# Altium footprint library FlexV1.PcbLib: 25 footprints (part 2 of 2)
Each footprint in its own frame and in the unit in brackets; x right, y up, seen from the top. Pads: shape width x height; smd on the part's side, far side on the other; paste and mask are expansions set on the pad; w line width, h text height; cw(c..) or ccw(c..) is an arc to the next point about the centre after c.
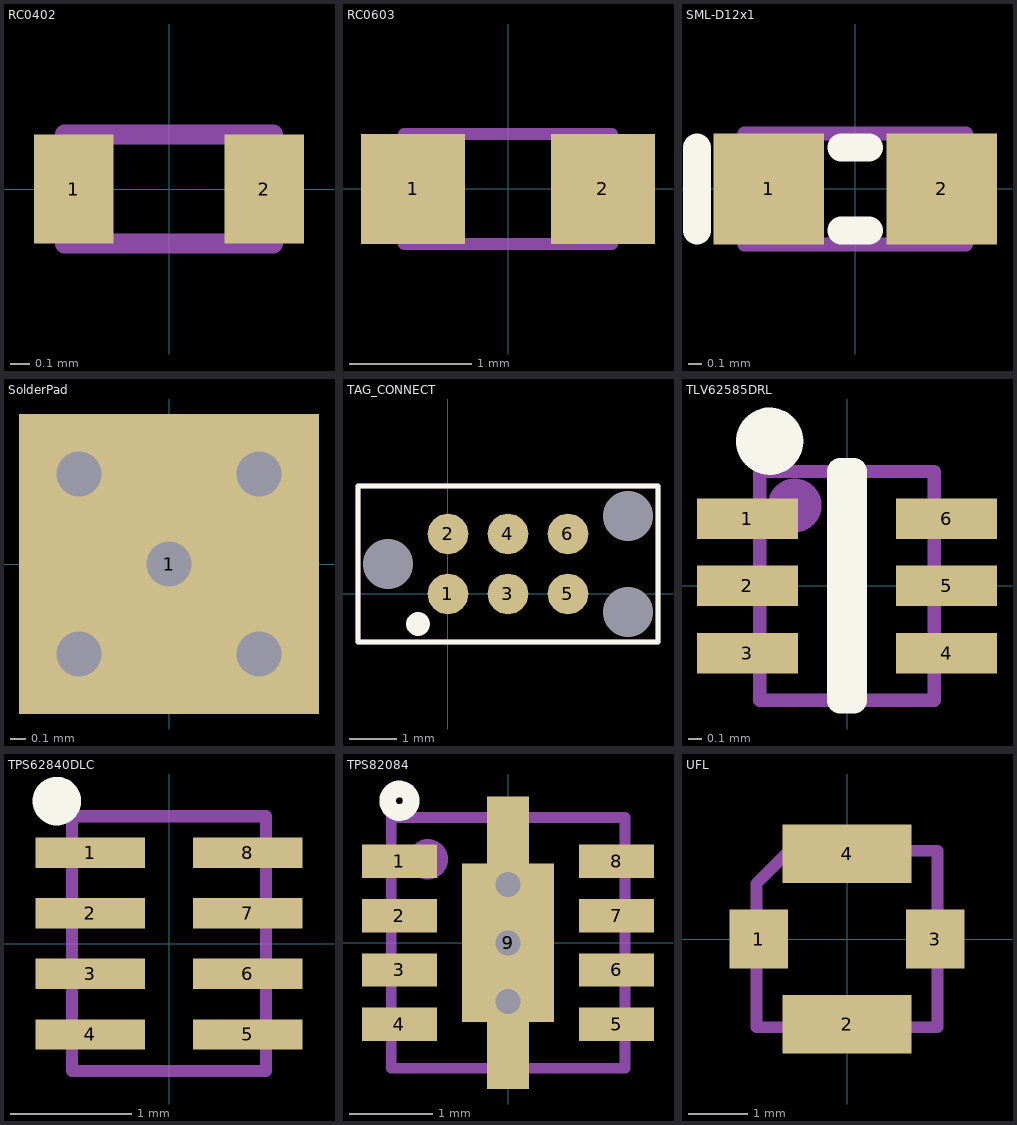
[diagram p1: the footprints below, top view; thin cyan lines are the x and y axes]

## RC0402 [mm]
height 0.4
pads (2):
  rect 0.4x0.55 smd: 1(-0.48,0) 2(0.48,0)
Top Assembly:
  lines w0.1: -0.525,-0.275 -0.525,0.275 0.525,0.275 0.525,-0.275 -0.525,-0.275
  text "'.Designator'" at -0.525,-0.275 h0.5
3D body "RC0402.step": height 0.4, standoff 0, extent -0.525,-0.275 0.525,0.275

## RC0603 [mm]
height 0.55
pads (2):
  rect 0.85x0.9 smd: 1(-0.775,0) 2(0.775,0)
Top Assembly:
  lines w0.1: -0.85,-0.45 0.85,-0.45 0.85,0.45 -0.85,0.45 -0.85,-0.45
  text "'.Designator'" at -0.635,-0.381 h0.7
3D body "RC0603.step": height 0.55, standoff 0, extent -0.85,-0.45 0.85,0.45

## SML-D12x1 [mm]
height 0.55
pads (2):
  rect 0.8x0.8 smd: 1(-0.625,0) 2(0.625,0)
Top Overlay:
  lines w0.2: -1.143,-0.3 -1.143,0.3 ; -0.1,-0.3 0.1,-0.3 ; -0.1,0.3 0.1,0.3
Top Assembly:
  rectangle: -0.8,-0.4 -0.381,0.4
  lines w0.1: -0.8,-0.4 -0.8,0.4 0.8,0.4 0.8,-0.4 -0.8,-0.4
3D body "SML-D12x1 (1).step": height 0.55, standoff 0, extent -0.8,-0.4 0.8,0.4

## SolderPad [mm]
pads (1):
  rect 2x2 hole 0.3: 1(0,0)
via 0.6,0.6 diameter 0.65 hole 0.3
via 0.6,-0.6 diameter 0.65 hole 0.3
via -0.6,-0.6 diameter 0.65 hole 0.3
via -0.6,0.6 diameter 0.65 hole 0.3
Top Layer:
  rectangle: -0.8,-0.8 0.8,0.8
  lines w0.203: 0.4,0.4 0.4,0.4
3D body: height 0.3, standoff 0, extent -1,-1 1,1

## TAG_CONNECT [mil]
pads (9):
  round 33.98 smd paste-1000 mask+0: 1(0,0) 2(0,50) 3(50,0) 4(50,50) 5(100,0) 6(100,50)
  round 0 hole 42: ""(-50,25) ""(150,-15) ""(150,65)
Top Overlay:
  circle w9.84: c-25,-25 r4.92
  lines w3.94: -75,-40 175,-40 175,90 -75,90 -75,-40
Top Assembly:
  circle w9.84: c-25,-25 r4.92
  lines w3.94: -75,-40 175,-40 175,90 -75,90 -75,-40

## TLV62585DRL [mm] "SOTFL, 6-Leads, Body 1,60x1,60mm, Pitch 0,50mm, IPC Medium Density"
height 0.6
pads (6):
  rect 0.75x0.3 smd: 1(-0.74,0.5) 2(-0.74,0) 3(-0.74,-0.5) 4(0.74,-0.5) 5(0.74,0) 6(0.74,0.5)
Top Overlay:
  circle w0.25: c-0.575,1.075 r0.125
  lines w0.2: -0.05,-0.85 0.05,-0.85 0.05,0.85 -0.05,0.85 -0.05,-0.85
Top Assembly:
  circle w0.2: c-0.389,0.597 r0.1
  lines w0.1: -0.65,-0.85 -0.65,0.85 0.65,0.85 0.65,-0.85 -0.65,-0.85
  text "'.Designator'" at -0.5,-0.525 h0.7
3D body "TLV62585DRL.step": height 0.6, standoff 0, extent -0.8,-0.848 0.8,0.848

## TPS62840DLC [mm] "SON, 8-Leads, Body 2,00x1,50mm, Pitch 0,50mm, IPC Medium Density"
height 1
pads (8):
  rect 0.9x0.25 smd: 1(-0.65,0.75) 2(-0.65,0.25) 3(-0.65,-0.25) 4(-0.65,-0.75) 5(0.65,-0.75) 6(0.65,-0.25) 7(0.65,0.25) 8(0.65,0.75)
Top Overlay:
  circle w0.2: c-0.925,1.175 r0.1
Top Assembly:
  lines w0.1: -0.8,-1.05 0.8,-1.05 0.8,1.05 -0.8,1.05 -0.8,-1.05
  text "'.Designator'" at -0.65,-0.375 h0.7
3D body "TPS62840DLC.step": height 1, standoff 0, extent -0.801,-1.05 0.801,1.05

## TPS82084 [mm]
pads (10):
  rect 0.9x0.4 smd: 1(-1.3,0.975) 2(-1.3,0.325) 3(-1.3,-0.325) 4(-1.3,-0.975) 5(1.3,-0.975) 6(1.3,-0.325) 7(1.3,0.325) 8(1.3,0.975)
  rect 0.5x3.5 smd paste-100: 9(0,0)
  rect 1.1x1.9 smd paste-2.54: 9(0,0)
via 0,-0.7 diameter 0.61 hole 0.3
via 0,0.7 diameter 0.61 hole 0.3
via 0,0 diameter 0.61 hole 0.3
Top Overlay:
  circle w0.2: c-1.3,1.7 r0.141
Top Paste:
  region: 0.55,-0.15 -0.55,-0.15 -0.55,-0.95 0.55,-0.95
  rectangle: -0.55,0.15 0.55,0.95
Top Assembly:
  circle w0.2: c-0.958,1 r0.141
  lines w0.127: -1.4,-1.5 1.4,-1.5 1.4,1.5 -1.4,1.5 -1.4,-1.5
3D body "SIL0008C.stp": height 1.31, standoff 0, extent -1.4,-1.5 1.4,1.5

## UFL [mm]
pads (4):
  rect 1x1 smd: 1(-1.5,0) 3(1.5,0)
  rect 2.2x1 smd: 2(0,-1.45) 4(0,1.45)
Top Assembly:
  lines w0.2: -1.54,-1.5 -1.54,0.941 -0.98,1.5 1.54,1.5 1.54,-1.5 -1.54,-1.5
  text "'.Designator'" at -1.4,-0.4 h0.7
3D body "734120110.stp": height 1.3, standoff 0, extent -1.54,-1.5 1.54,1.5